# EAGLE library part STNS01 (library stock_components)
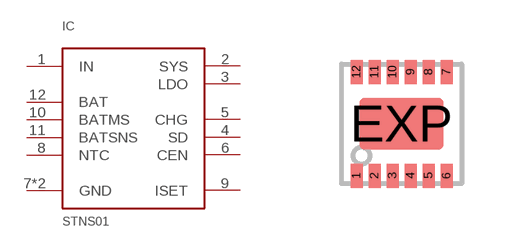
[diagram p3: symbol with the pads of DFN12; footprint DFN12]

Designator prefix IC

## STNS01  [DFN12]
1  IN
2  SYS
3  LDO
4  SD
5  CHG
6  CEN
7  GND
8  NTC
9  ISET
10  BATMS
11  BATSNS
12  BAT
EXP  GND

## Footprint DFN12 (pad centres in mm)
smd 0.3 x 0.6: 1 -1.125,-1.3; 2 -0.675,-1.3; 3 -0.225,-1.3; 4 0.225,-1.3; 5 0.675,-1.3; 6 1.125,-1.3; 7 1.125,1.3; 8 0.675,1.3; 9 0.225,1.3; 10 -0.225,1.3; 11 -0.675,1.3; 12 -1.125,1.3
smd 2.1 x 1.3: EXP 0,0